# Altium footprint library AUVic_Integrated_Library_Virtual_Components.PcbLib: 13 footprints
Each footprint in its own frame and in the unit in brackets; x right, y up, seen from the top. Pads: shape width x height; smd on the part's side, far side on the other; paste and mask are expansions set on the pad; w line width, h text height; cw(c..) or ccw(c..) is an arc to the next point about the centre after c.
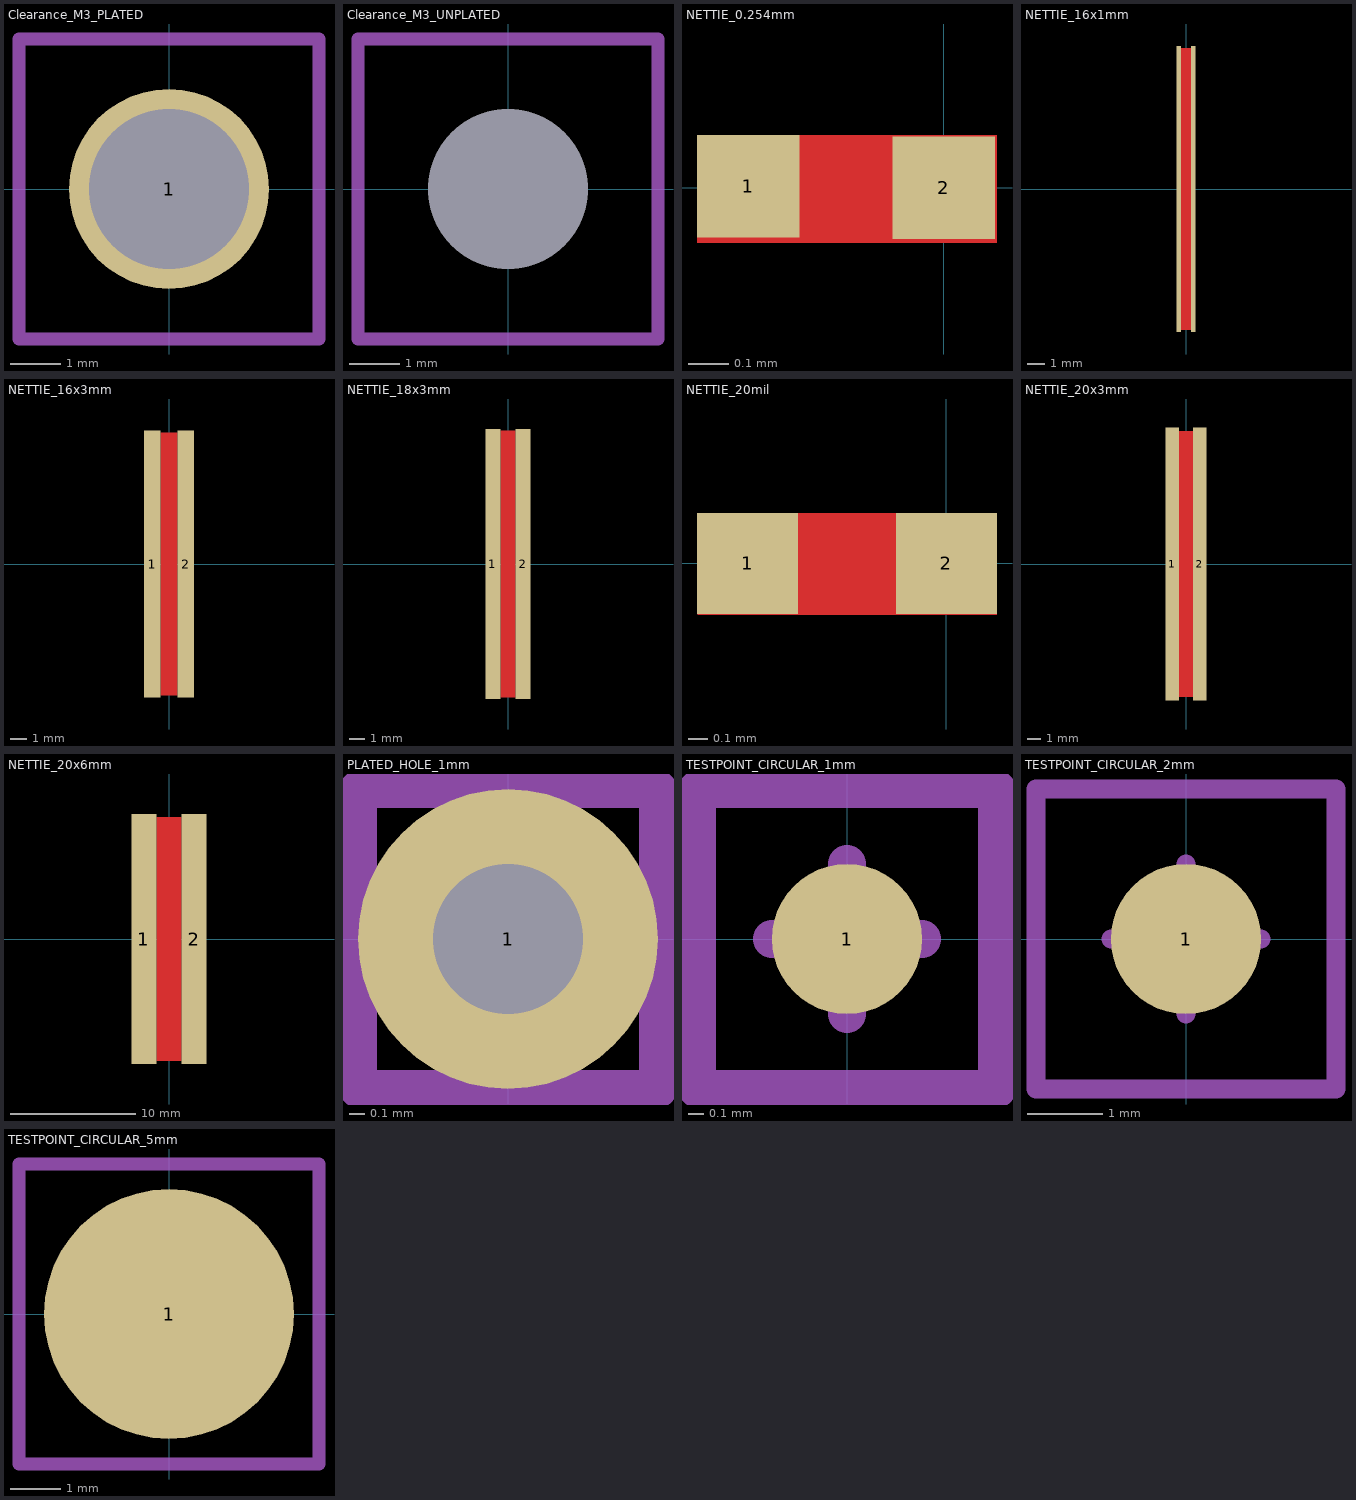
[diagram p0: the footprints below, top view; thin cyan lines are the x and y axes]

## Clearance_M3_PLATED [mm]
pads (1):
  round 4 hole 3.2: 1(0,0)
Body Top:
  lines w0.254: -3,-3 -3,3 3,3 3,-3 -3,-3
  text ".Designator" at -7.9,-1.3 h1.52
Courtyard Top:
  lines w0.254: -1,0 1,0 ; -3,-3 -3,3 3,3 3,-3 -3,-3 ; 0,-1 0,1 0,-1

## Clearance_M3_UNPLATED [mm]
pads (1):
  round 2 hole 3.2 unplated: ""(0,0)
Body Top:
  lines w0.254: -3,-3 3,-3 3,3 -3,3 -3,-3
  text ".Designator" at -7.9,-1.3 h1.52
Courtyard Top:
  lines w0.254: -1,0 1,0 ; -3,-3 -3,3 3,3 3,-3 -3,-3 ; 0,-1 0,1 0,-1

## NETTIE_0.254mm [mil]
pads (2):
  rect 10x10 smd: 1(-19.03,0.13) 2(0,0)
Top Layer:
  rectangle: -24.03,-5.39 5.17,5.13

## NETTIE_16x1mm [mm]
pads (2):
  rect 0.25x16 smd: 1(-0.4,0) 2(0.4,0)
Top Layer:
  rectangle: -0.4,-7.9 0.4,7.9

## NETTIE_16x3mm [mm]
pads (2):
  rect 1x16 smd: 1(-1,0) 2(1,0)
Top Layer:
  rectangle: -0.5,-7.9 0.5,7.9

## NETTIE_18x3mm [mm]
pads (2):
  rect 1x18 smd: 1(-1,0) 2(1,0)
Top Layer:
  rectangle: -0.5,-8.9 0.5,8.9

## NETTIE_20mil [mil]
pads (2):
  rect 20x20 smd: 1(-39.37,0) 2(0,0)
Top Layer:
  rectangle: -49.3,-10.25 10.01,9.95

## NETTIE_20x3mm [mm]
pads (2):
  rect 1x20 smd: 1(-1,0) 2(1,0)
Top Layer:
  rectangle: -0.5,-9.75 0.5,9.75

## NETTIE_20x6mm [mm]
pads (2):
  rect 2x20 smd: 1(-2,0) 2(2,0)
Top Layer:
  rectangle: -1,-9.75 1,9.75

## PLATED_HOLE_1mm [mm]
pads (1):
  round 2 hole 1: 1(0,0)
Body Top:
  lines w0.254: -1,-1 -1,1 1,1 1,-1 -1,-1
  text ".Designator" at -2.5,-0.5 h0.5
Courtyard Top:
  lines w0.254: -0.5,0 0.5,0 ; 0,-0.5 0,0.5 ; -1,-1 -1,1 1,1 1,-1 -1,-1

## TESTPOINT_CIRCULAR_1mm [mm]
pads (1):
  round 1 smd: 1(0,0)
Body Top:
  lines w0.254: -1,-1 -1,1 1,1 1,-1 -1,-1
  text ".Designator" at -2,-0.6 h0.38
Courtyard Top:
  lines w0.254: -0.5,0 0.5,0 ; 0,-0.5 0,0.5 ; -1,-1 1,-1 1,1 -1,1 -1,-1

## TESTPOINT_CIRCULAR_2mm [mm]
pads (1):
  round 2 smd: 1(0,0)
Body Top:
  lines w0.254: -2,-2 -2,2 2,2 2,-2 -2,-2
  text ".Designator" at -7.9,-1.3 h1.52
Courtyard Top:
  lines w0.254: -1,0 1,0 ; 0,-1 0,1 ; -2,-2 2,-2 2,2 -2,2 -2,-2

## TESTPOINT_CIRCULAR_5mm [mm]
pads (1):
  round 5 smd: 1(0,0)
Body Top:
  lines w0.254: -3,-3 3,-3 3,3 -3,3 -3,-3
  text ".Designator" at -8.004,-1.262 h1.52
Courtyard Top:
  lines w0.254: -1,0 1,0 ; 0,-1 0,1 ; -3,-3 -3,3 3,3 3,-3 -3,-3